# Altium schematic symbol library ControlBoard.SCHLIB: 69 symbols
Pins are listed as number, name and electrical type; pins without a type are passive.

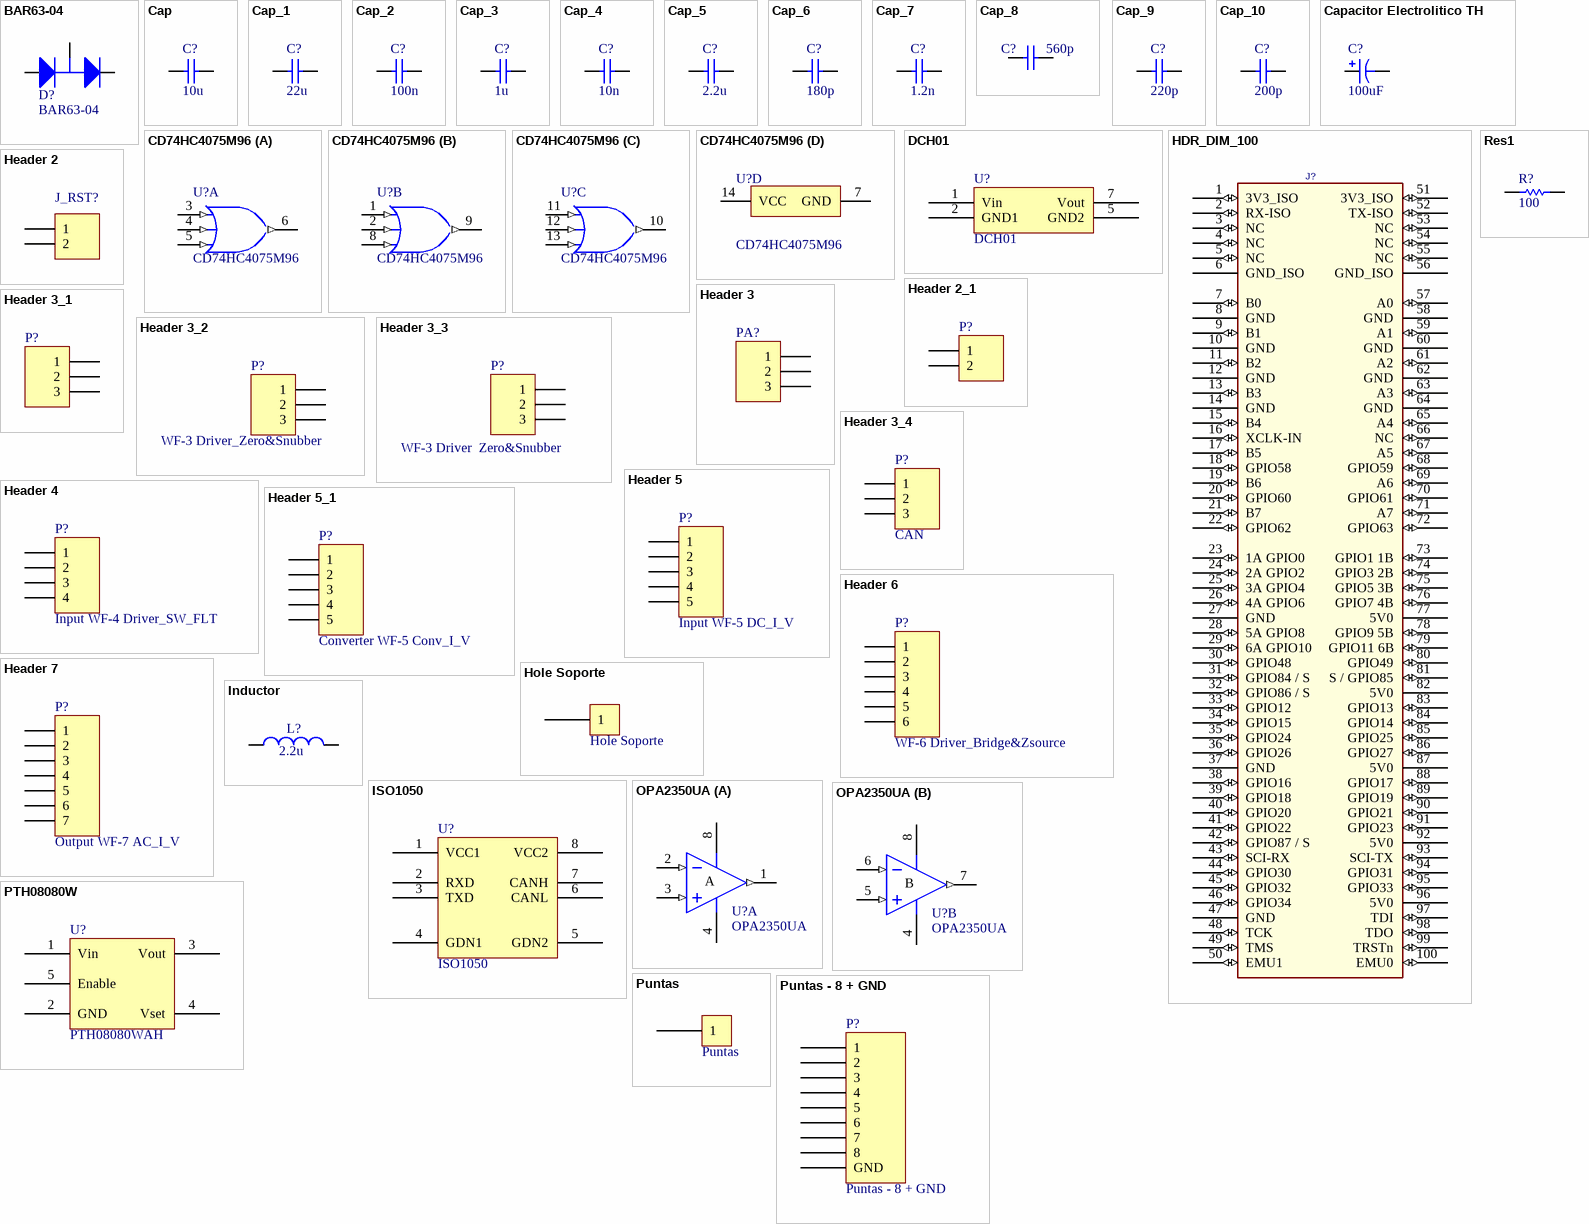
[diagram p0: symbols BAR63-04 to Res1]

## BAR63-04
designator D?
PIN Diode for High-Speed Switching of RF Signals
footprint SOT23-3 (Diodo Infineon BAR63-04 - Revisado por PA 08/04/15)
pins: 1 A, 2 K, 3 C

## Cap
designator C?  value 10u  (hidden comment: Cap)
Capacitor
simulation model CAP (Capacitor)
signal-integrity model Cap
footprint C0805 (Chip Capacitor, Body 2.0x1.3mm, IPC High Density)
pins: 1, 2

## Cap_1
designator C?, comment value 22u  (hidden comment: Cap)
Capacitor
simulation model CAP (Capacitor)
signal-integrity model Cap
footprint C0805 (Chip Capacitor, Body 2.0x1.3mm, IPC High Density)
pins: 1, 2

## Cap_2
designator C?, comment value 100n  (hidden comment: Cap)
Capacitor
simulation model CAP (Capacitor)
signal-integrity model Cap
footprint C0805 (Chip Capacitor, Body 2.0x1.3mm, IPC High Density)
pins: 1, 2

## Cap_3
designator C?, comment value 1u  (hidden comment: Cap)
Capacitor
simulation model CAP (Capacitor)
signal-integrity model Cap
footprint C0805 (Chip Capacitor, Body 2.0x1.3mm, IPC High Density)
pins: 1, 2

## Cap_4
designator C?, comment value 10n  (hidden comment: Cap)
Capacitor
simulation model CAP (Capacitor)
signal-integrity model Cap
footprint C0805 (Chip Capacitor, Body 2.0x1.3mm, IPC High Density)
pins: 1, 2

## Cap_5
designator C?, comment value 2.2u  (hidden comment: Cap)
Capacitor
simulation model CAP (Capacitor)
signal-integrity model Cap
footprint C0805 (Chip Capacitor, Body 2.0x1.3mm, IPC High Density)
pins: 1, 2

## Cap_6
designator C?, comment value 180p  (hidden comment: Cap)
Capacitor
simulation model CAP (Capacitor)
signal-integrity model Cap
footprint C0805 (Chip Capacitor, Body 2.0x1.3mm, IPC High Density)
pins: 1, 2

## Cap_7
designator C?, comment value 1.2n  (hidden comment: Cap)
Capacitor
simulation model CAP (Capacitor)
signal-integrity model Cap
footprint C0805 (Chip Capacitor, Body 2.0x1.3mm, IPC High Density)
pins: 1, 2

## Cap_8
designator C?, comment value 560p  (hidden comment: Cap)
Capacitor
simulation model CAP (Capacitor)
signal-integrity model Cap
footprint C0805 (Chip Capacitor, Body 2.0x1.3mm, IPC High Density)
pins: 1, 2

## Cap_9
designator C?, comment value 220p  (hidden comment: Cap)
Capacitor
simulation model CAP (Capacitor)
signal-integrity model Cap
footprint C0805 (Chip Capacitor, Body 2.0x1.3mm, IPC High Density)
pins: 1, 2

## Cap_10
designator C?, comment value 200p  (hidden comment: Cap)
Capacitor
simulation model CAP (Capacitor)
signal-integrity model Cap
footprint C0805 (Chip Capacitor, Body 2.0x1.3mm, IPC High Density)
pins: 1, 2

## Capacitor Electrolitico TH
designator C?  value 100uF  (hidden comment: Capacitor Electrolitico TH)
footprint Cap Elec TH (D = 6.3 mm - Sep = 2.5 - Hole 0.8)
pins: 1, 2

## CD74HC4075M96
designator U?
High Speed CMOS Logic Triple 3-Input OR Gates, D0014A, LARGE T&R; Manufacturer: Texas Instruments; VCC(Min)(V): 2; VCC(Max)(V): 6; ICC @ Nom Voltage(Max)(mA): 0.02; Bits(#): 3; F @ Nom Voltage(Max)(Mhz): 70; Rating: Catalog; Voltage(Nom)(V): 5; Output Drive (IOL/IOH)(Max)(mA): 5.2/-5.2; tpd @ Nom Voltage(Max)(ns): 25; DatasheetVersion: SCHS210G; PackageReference: D0014A; Generic Part Number: CD74HC4075; Output Type: CMOS; Input Type: CMOS; Operating Temperature Range(C): -55 to 125; Code_JEDEC: MS-012; PartNumber: CD74HC4075M96; ComponentLink1Description: Manufacturer URL; ComponentLink1URL: http://www.ti.com/; ComponentLink2Description: Datasheet; ComponentLink2URL: http://www.ti.com/lit/ds/symlink/cd74hc4075.pdf; ComponentLink3Description: Package Specification; ComponentLink3URL: http://www.ti.com/lit/ml/mpds177g/mpds177g.pdf
footprint D0014A_N (SOIC, 14-Leads, Body 8.75x4mm, Pitch 1.27mm, IPC Medium Density)
footprint D0014A_M (SOIC, 14-Leads, Body 8.75x4mm, Pitch 1.27mm, IPC Low Density)
footprint D0014A_L (SOIC, 14-Leads, Body 8.75x4mm, Pitch 1.27mm, IPC High Density)
footprint PW020
footprint DCU8
part A pins: 3 1A (in), 4 1B (in), 5 1C (in), 6 1Y (out)
part B pins: 1 2A (in), 2 2B (in), 8 2C (in), 9 2Y (out)
part C pins: 10 3Y (out), 11 3A (in), 12 3B (in), 13 3C (in)
part D pins: 7 GND (power), 14 VCC (power)

## DCH01
designator U?
footprint DCH01 (Fuente DCDC 5V - 5V - Revisado por PA 02/04/15)
footprint SOT23-6
pins: 1 Vin, 2 GND1, 5 GND2, 7 Vout

## HDR_DIM_100
designator J?, comment DIM100  (value not drawn)
CONN, 100 pin DIMM socket - Molex 0876301001
footprint MOLEXDIMM-100-876301001_SD
footprint MOLEXDIMM-100-876301001_SD
pins: 1 3V3_ISO (io), 2 RX-ISO (io), 3 NC (io), 4 NC (io), 5 NC (io), 6 GND_ISO (power), 7 B0 (io), 8 GND (power), 9 B1 (io), 10 GND (power), 11 B2 (io), 12 GND (power), 13 B3 (io), 14 GND (power), 15 B4 (io), 16 XCLK-IN (io), 17 B5 (io), 18 GPIO58 (io), 19 B6 (io), 20 GPIO60 (io), 21 B7 (io), 22 GPIO62 (io), 23 1A GPIO0 (io), 24 2A GPIO2 (io), 25 3A GPIO4 (io), 26 4A GPIO6 (io), 27 GND (power), 28 5A GPIO8 (io), 29 6A GPIO10 (io), 30 GPIO48 (io), 31 GPIO84 / S (io), 32 GPIO86 / S (io), 33 GPIO12 (io), 34 GPIO15 (io), 35 GPIO24 (io), 36 GPIO26 (io), 37 GND (power), 38 GPIO16 (io), 39 GPIO18 (io), 40 GPIO20 (io), 41 GPIO22 (io), 42 GPIO87 / S (io), 43 SCI-RX (io), 44 GPIO30 (io), 45 GPIO32 (io), 46 GPIO34 (io), 47 GND (power), 48 TCK (io), 49 TMS (io), 50 EMU1 (io), 51 3V3_ISO (io), 52 TX-ISO (io), 53 NC (io), 54 NC (io), 55 NC (io), 56 GND_ISO (power), 57 A0 (io), 58 GND (power), 59 A1 (io), 60 GND (power), 61 A2 (io), 62 GND (power), 63 A3 (io), 64 GND (power), 65 A4 (io), 66 NC (io), 67 A5 (io), 68 GPIO59 (io), 69 A6 (io), 70 GPIO61 (io), 71 A7 (io), 72 GPIO63 (io), 73 GPIO1 1B (io), 74 GPIO3 2B (io), 75 GPIO5 3B (io), 76 GPIO7 4B (io), 77 5V0 (power), 78 GPIO9 5B (io), 79 GPIO11 6B (io), 80 GPIO49 (io), 81 S / GPIO85 (io), 82 5V0 (power), 83 GPIO13 (io), 84 GPIO14 (io), 85 GPIO25 (io), 86 GPIO27 (io), 87 5V0 (power), 88 GPIO17 (io), 89 GPIO19 (io), 90 GPIO21 (io), 91 GPIO23 (io), 92 5V0 (power), 93 SCI-TX (io), 94 GPIO31 (io), 95 GPIO33 (io), 96 5V0 (power), 97 TDI (io), 98 TDO (io), 99 TRSTn (io), 100 EMU0 (io)

## Header 2
designator J_RST?  (value not drawn)
Header, 2-Pin
footprint HDR1X2 (Connector; Header; 2 Position)
pins: 1, 2

## Header 2_1
designator P?, comment Input WF-2 Auxiliary Power Supply  (value not drawn)
Header, 2-Pin; LatestRevisionDate: 17-Jul-2002; LatestRevisionNote: Re-released for DXP Platform.; Publisher: Altium Limited
footprint HDR1X2 (Connector; Header; 2 Position)
signal-integrity model Connector
pins: 1, 2

## Header 3
designator PA?
Header, 3-Pin, 2.54mm pitch; LatestRevisionDate: 17-Jul-2002; LatestRevisionNote: Re-released for DXP Platform.; Publisher: Altium Limited
signal-integrity model Connector
footprint HDR1X3 (Connector; Header; 3 Position; Pitch 2.54mm)
pins: 1, 2, 3

## Header 3_1
designator P?, comment WF-3 Test Alimentacion  (value not drawn)
Header, 3-Pin, 2.54mm pitch; LatestRevisionDate: 17-Jul-2002; LatestRevisionNote: Re-released for DXP Platform.; Publisher: Altium Limited
signal-integrity model Connector
footprint HDR1X3 (Connector; Header; 3 Position; Pitch 2.54mm)
pins: 1, 2, 3

## Header 3_2
designator P?, comment WF-3 Driver_Zero&Snubber
Header, 3-Pin, 2.54mm pitch; LatestRevisionDate: 17-Jul-2002; LatestRevisionNote: Re-released for DXP Platform.; Publisher: Altium Limited
signal-integrity model Connector
footprint HDR1X3 (Connector; Header; 3 Position; Pitch 2.54mm)
pins: 1, 2, 3

## Header 3_3
designator P?, comment WF-3 Driver  Zero&Snubber
Header, 3-Pin, 2.54mm pitch; LatestRevisionDate: 17-Jul-2002; LatestRevisionNote: Re-released for DXP Platform.; Publisher: Altium Limited
signal-integrity model Connector
footprint HDR1X3 (Connector; Header; 3 Position; Pitch 2.54mm)
pins: 1, 2, 3

## Header 3_4
designator P?, comment CAN
Header, 3-Pin; LatestRevisionDate: 17-Jul-2002; LatestRevisionNote: Re-released for DXP Platform.; Publisher: Altium Limited
footprint HDR1X3 (Connector; Header; 3 Position)
signal-integrity model Connector
footprint TEST POINT
footprint HDR1X2
pins: 1, 2, 3

## Header 4
designator P?, comment Input WF-4 Driver_SW_FLT
Header, 4-Pin; LatestRevisionDate: 17-Jul-2002; LatestRevisionNote: Re-released for DXP Platform.; Publisher: Altium Limited
footprint HDR1X4 (Connector; Header; 4 Position)
signal-integrity model Connector
pins: 1, 2, 3, 4

## Header 5
designator P?, comment Input WF-5 DC_I_V
Header, 5-Pin; LatestRevisionDate: 17-Jul-2002; LatestRevisionNote: Re-released for DXP Platform.; Publisher: Altium Limited
footprint HDR1X5 (Connector; Header; 5 Position)
signal-integrity model Connector
footprint TEST POINT
pins: 1, 2, 3, 4, 5

## Header 5_1
designator P?, comment Converter WF-5 Conv_I_V
Header, 5-Pin; LatestRevisionDate: 17-Jul-2002; LatestRevisionNote: Re-released for DXP Platform.; Publisher: Altium Limited
footprint HDR1X5 (Connector; Header; 5 Position)
signal-integrity model Connector
footprint TEST POINT
footprint HDR1X6
pins: 1, 2, 3, 4, 5

## Header 6
designator P?, comment WF-6 Driver_Bridge&Zsource
Header, 6-Pin; LatestRevisionDate: 17-Jul-2002; LatestRevisionNote: Re-released for DXP Platform.; Publisher: Altium Limited
footprint HDR1X6 (Connector; Header; 6 Position)
signal-integrity model Connector
pins: 1, 2, 3, 4, 5, 6

## Header 7
designator P?, comment Output WF-7 AC_I_V
Header, 7-Pin; LatestRevisionDate: 17-Jul-2002; LatestRevisionNote: Re-released for DXP Platform.; Publisher: Altium Limited
footprint HDR1X7 (Connector; Header; 7 Position)
signal-integrity model Connector
footprint HDR1X6
footprint TEST POINT
pins: 1, 2, 3, 4, 5, 6, 7

## Hole Soporte
designator H?
footprint Hole 8x4 (Diametros: Exteriro 8 mm - Interior 4 mm)
pins: 1 "Agujero para agarre PCB"

## Inductor
designator L?  value 2.2u  (hidden comment: Inductor)
footprint L0805 (Inductancia 0805 - Ajustada por PA 02/03/15)
pins: 1, 2

## ISO1050
designator U?
footprint SOP-8 (Transceiver CAN CX - Revisado por PA 02/04/15)
pins: 1 VCC1, 2 RXD, 3 TXD, 4 GDN1, 5 GDN2, 6 CANL, 7 CANH, 8 VCC2

## OPA2350UA
designator U?
Dual Operational Amplifier
footprint SOIC-8 (SOIC-8 - Revisado por PA 03/04/15)
pins on every part: 4 V- (power), 8 V+ (power)
part A pins: 1 OUT (out), 2 IN- (in), 3 IN+ (in)
part B pins: 5 IN+ (in), 6 IN- (in), 7 OUT (out)
part A text: A
part B text: B

## PTH08080W
designator U?, comment PTH08080WAH
footprint PTH08080WAH (Fuente Switching - Revisada por ES 28/08/15)
pins: 1 Vin, 2 GND, 3 Vout (power), 4 Vset, 5 Enable

## Puntas
designator P??
Punta Prueba
footprint Puntas (Punta de prueba - Revisada por JL 07/04/21)
pins: 1 "Punta Osciloscopio"

## Puntas - 8 + GND
designator P?
Punta Prueba
footprint Puntas - 8 + GND (Punta de prueba - Revisada por JL 09/10/21)
pins: 1 "Punta Osciloscopio", 2 "Punta Osciloscopio", 3 "Punta Osciloscopio", 4 "Punta Osciloscopio", 5 "Punta Osciloscopio", 6 "Punta Osciloscopio", 7 "Punta Osciloscopio", 8 "Punta Osciloscopio", GND "Punta Osciloscopio"

## Res1
designator R?  value 100  (hidden comment: Res1)
Resistor
footprint 0805 (Resistencia 0805 - Ajustada por PA 17/02/15)
pins: 1, 2

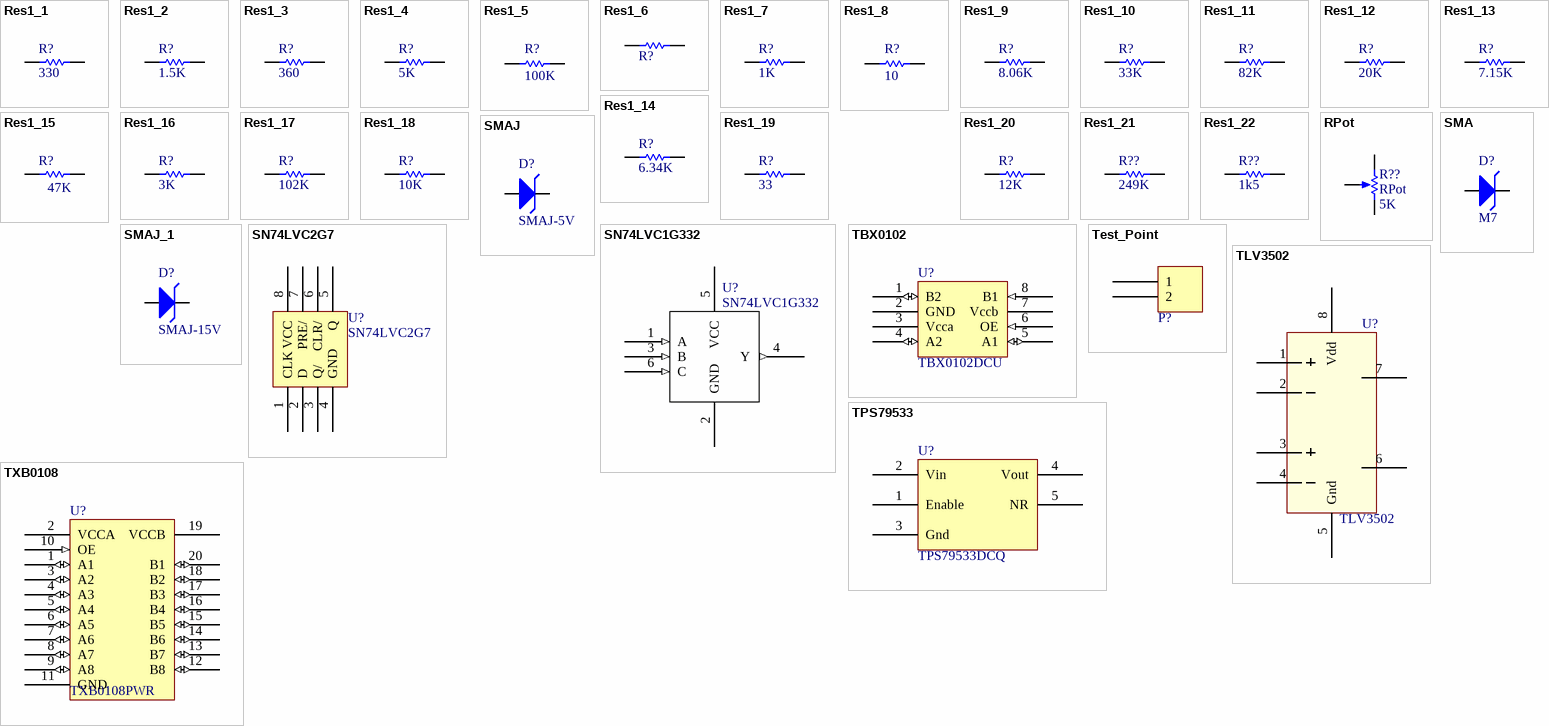
[diagram p1: symbols Res1_1 to TXB0108]

## Res1_1
designator R?, comment value 330  (hidden comment: Res1)
Resistor
footprint 0805 (Resistencia 0805 - Ajustada por PA 17/02/15)
pins: 1, 2

## Res1_2
designator R?, comment value 1.5K  (hidden comment: Res1)
Resistor
footprint 0805 (Resistencia 0805 - Ajustada por PA 17/02/15)
pins: 1, 2

## Res1_3
designator R?, comment value 360  (hidden comment: Res1)
Resistor
footprint 0805 (Resistencia 0805 - Ajustada por PA 17/02/15)
pins: 1, 2

## Res1_4
designator R?, comment value 5K  (hidden comment: Res1)
Resistor
footprint 0805 (Resistencia 0805 - Ajustada por PA 17/02/15)
pins: 1, 2

## Res1_5
designator R?, comment value 100K  (hidden comment: Res1)
Resistor
footprint 0805 (Resistencia 0805 - Ajustada por PA 17/02/15)
pins: 1, 2

## Res1_6
designator R?, comment Res1  (value not drawn)
Resistor
footprint 0805 (Resistencia 0805 - Ajustada por PA 17/02/15)
pins: 1, 2

## Res1_7
designator R?, comment value 1K  (hidden comment: Res1)
Resistor
footprint 0805 (Resistencia 0805 - Ajustada por PA 17/02/15)
pins: 1, 2

## Res1_8
designator R?, comment value 10  (hidden comment: Res1)
Resistor
footprint 0805 (Resistencia 0805 - Ajustada por PA 17/02/15)
pins: 1, 2

## Res1_9
designator R?, comment value 8.06K  (hidden comment: Res1)
Resistor
footprint 0805 (Resistencia 0805 - Ajustada por PA 17/02/15)
pins: 1, 2

## Res1_10
designator R?, comment value 33K  (hidden comment: Res1)
Resistor
footprint 0805 (Resistencia 0805 - Ajustada por PA 17/02/15)
pins: 1, 2

## Res1_11
designator R?, comment value 82K  (hidden comment: Res1)
Resistor
footprint 0805 (Resistencia 0805 - Ajustada por PA 17/02/15)
pins: 1, 2

## Res1_12
designator R?, comment value 20K  (hidden comment: Res1)
Resistor
footprint 0805 (Resistencia 0805 - Ajustada por PA 17/02/15)
pins: 1, 2

## Res1_13
designator R?, comment value 7.15K  (hidden comment: Res1)
Resistor
footprint 0805 (Resistencia 0805 - Ajustada por PA 17/02/15)
pins: 1, 2

## Res1_14
designator R?, comment value 6.34K  (hidden comment: Res1)
Resistor
footprint 0805 (Resistencia 0805 - Ajustada por PA 17/02/15)
pins: 1, 2

## Res1_15
designator R?, comment value 47K  (hidden comment: Res1)
Resistor
footprint 0805 (Resistencia 0805 - Ajustada por PA 17/02/15)
pins: 1, 2

## Res1_16
designator R?, comment value 3K  (hidden comment: Res1)
Resistor
footprint 0805 (Resistencia 0805 - Ajustada por PA 17/02/15)
pins: 1, 2

## Res1_17
designator R?, comment value 102K  (hidden comment: Res1)
Resistor
footprint 0805 (Resistencia 0805 - Ajustada por PA 17/02/15)
pins: 1, 2

## Res1_18
designator R?, comment value 10K  (hidden comment: Res1)
Resistor
footprint 1206 (Resistencia 1206 - Ajustada por PA 14/02/2015)
pins: 1, 2

## Res1_19
designator R?, comment value 33  (hidden comment: Res1)
Resistor
footprint 0805 (Resistencia 0805 - Ajustada por PA 17/02/15)
pins: 1, 2

## Res1_20
designator R?, comment value 12K  (hidden comment: Res1)
Resistor
footprint 0805 (Resistencia 0805 - Ajustada por PA 17/02/15)
pins: 1, 2

## Res1_21
designator R??, comment value 249K  (hidden comment: Res1)
Resistor
footprint 0805 (Resistencia 0805 - Ajustada por PA 17/02/15)
pins: 1, 2

## Res1_22
designator R??, comment value 1k5  (hidden comment: Res1)
Resistor
footprint 0805 (Resistencia 0805 - Ajustada por PA 17/02/15)
pins: 1, 2

## RPot
designator R??  value 5K
Potentiometer; Sim Note: Enter the Resistance value and the set point into parameter fields.; Set Position: 0.5; Published: 8-Jun-2000; LatestRevisionDate: 17-Jul-2002; LatestRevisionNote: Re-released for DXP Platform.; PackageReference: VR5; Publisher: Altium Limited; PackageDescription: Variable Resistor, Thru-Hole; 3 Leads
footprint VR5 (Thru-Hole; 3 Leads)
simulation model POT (Potentiometer)
footprint Trimer (Preset)
pins: 1 TOP, 2 TAP, 3 BOT
1 alternate drawing of the same symbol

## SMA
designator D?, comment M7
Diodo SMC
footprint SMC (SMC Zener Diode - Revisado por PA 23/05/15)
pins: 1 A, 2 K

## SMAJ
designator D?, comment SMAJ-5V
Transient Voltage Suppressor Diode
footprint SMAZ (SMAZ Zener Diode - Revisado por PA 23/05/15)
pins: 1 A, 2 K

## SMAJ_1
designator D?, comment SMAJ-15V
Transient Voltage Suppressor Diode
footprint SMAZ (SMAZ Zener Diode - Revisado por PA 23/05/15)
pins: 1 A, 2 K

## SN74LVC1G332
designator U?
3-Input OR GATE - Revisado por PA 04/03/15
footprint SOT23-6 (SOT23-6 DBV OR Gate - Revisado por PA 05/03/15)
footprint SOIC-8_
pins: 1 A (in), 2 GND (power), 3 B (in), 4 Y (out), 5 VCC (power), 6 C (in)

## SN74LVC2G7
designator U?
Flip-Flop tipo D
footprint US8 (Flip Flop D - Revisado por PA 05/03/15)
pins: 1 CLK, 2 D, 3 Q/, 4 GND, 5 Q, 6 CLR/, 7 PRE/, 8 VCC

## TBX0102
designator U?, comment TBX0102DCU
footprint DCU8
footprint DCU8-L
footprint DCU8-M
footprint D0014A_N
pins: 1 B2 (io), 2 GND (power), 3 Vcca (power), 4 A2 (io), 5 A1 (io), 6 OE (in), 7 Vccb (power), 8 B1 (in)

## Test_Point
designator P?  (value not drawn)
Punta Prueba Osciloscopio
footprint Test Point (Punta de prueba Osciloscopio- Revisada por JL 07/04/21)
pins: 1 "Punta Osciloscopio", 2 "Resorte Osciloscopio"

## TLV3502
designator U?
High Speed R2R Comparator - Revisado por PA 04/03/15
footprint SOIC-8 (SOIC-8 - Revisado por PA 03/04/15)
pins: 1, 2 7, 3 1, 4 7, 5 Gnd, 6, 7 5, 8 Vdd

## TPS79533
designator U?, comment TPS79533DCQ
footprint SOT223-6 (Regulador LDO - Revisado por PA 03/04/15)
pins: 1 Enable, 2 Vin, 3 Gnd, 4 Vout (power), 5 NR

## TXB0108
designator U?, comment TXB0108PWR
footprint PW020 (Shrink Small Outline; 20 Leads; Body Width 4.4 mm; Pitch 0.65 mm)
footprint SOIC-8
footprint SOIC-8_
pins: 1 A1 (io), 2 VCCA (power), 3 A2 (io), 4 A3 (io), 5 A4 (io), 6 A5 (io), 7 A6 (io), 8 A7 (io), 9 A8 (io), 10 OE (in), 11 GND (power), 12 B8 (io), 13 B7 (io), 14 B6 (io), 15 B5 (io), 16 B4 (io), 17 B3 (io), 18 B2 (io), 19 VCCB (power), 20 B1 (io)